# Altium schematic symbol library fuse.SchLib: 1 symbol
Pins are listed as number, name and electrical type; pins without a type are passive.

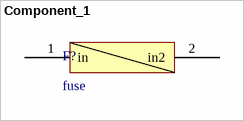
[diagram p0: symbol Component_1]

## Component_1
designator F?, comment fuse
fuse ptc
footprint Fuse
pins: 1 in, 2 in2